# Altium integrated library LQG15HS3N6S02D.IntLib: 1 symbol
Pins are listed as number, name and electrical type; pins without a type are passive.

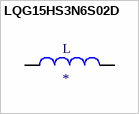
[diagram p0: symbol LQG15HS3N6S02D]

## LQG15HS3N6S02D
designator L
Inductor with Inductance: 3.6nH Tol. +/-0.3nH, Package: 0402 _1005_; MP: LQG15HS3N6S02D; MF: Murata; Package: 1005 Murata; Price: None; Availability: Unavailable; Value: *; SnapEDA_Link: https://www.snapeda.com/parts/LQG15HS3N6S02D/Murata%20Electronics%20North%20America/view-part/1501786/?ref=snap
footprint INDC1005X55N
pins: 1, 2